# EAGLE library part 16PIN_CONN (library VESC_SHIT)
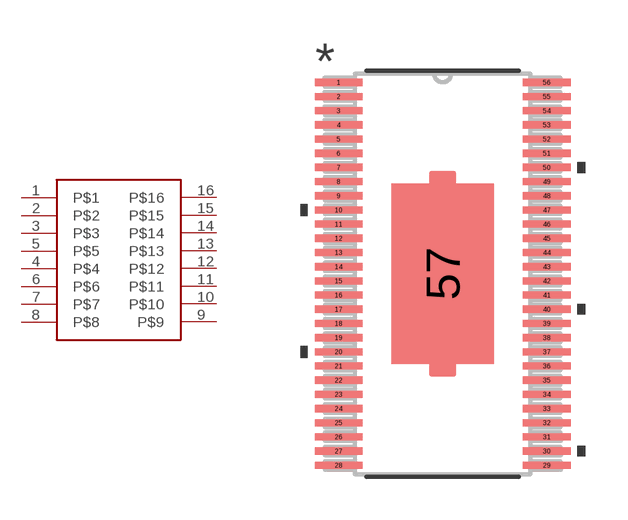
[diagram p6: symbol with the pads of DCA56_6P35X3P61; footprint DCA56_6P35X3P61]

Designator prefix -

## 16PIN_CONN  [DCA56_6P35X3P61]
1  P$1
2  P$2
3  P$3
4  P$4
5  P$5
6  P$6
7  P$7
8  P$8
9  P$9
10  P$10
11  P$11
12  P$12
13  P$13
14  P$14
15  P$15
16  P$16

## Footprint DCA56_6P35X3P61 (pad centres in mm)
smd 1.676 x 0.254: 1 -3.67,6.75; 2 -3.67,6.25; 3 -3.67,5.75; 4 -3.67,5.25; 5 -3.67,4.75; 6 -3.67,4.25; 7 -3.67,3.75; 8 -3.67,3.25; 9 -3.67,2.75; 10 -3.67,2.25; 11 -3.67,1.75; 12 -3.67,1.25; 13 -3.67,0.75; 14 -3.67,0.25; 15 -3.67,-0.25; 16 -3.67,-0.75; 17 -3.67,-1.25; 18 -3.67,-1.75; 19 -3.67,-2.25; 20 -3.67,-2.75; 21 -3.67,-3.25; 22 -3.67,-3.75; 23 -3.67,-4.25; 24 -3.67,-4.75; 25 -3.67,-5.25; 26 -3.67,-5.75; 27 -3.67,-6.25; 28 -3.67,-6.75; 29 3.67,-6.75; 30 3.67,-6.25; 31 3.67,-5.75; 32 3.67,-5.25; 33 3.67,-4.75; 34 3.67,-4.25; 35 3.67,-3.75; 36 3.67,-3.25; 37 3.67,-2.75; 38 3.67,-2.25; 39 3.67,-1.75; 40 3.67,-1.25; 41 3.67,-0.75; 42 3.67,-0.25; 43 3.67,0.25; 44 3.67,0.75; 45 3.67,1.25; 46 3.67,1.75; 47 3.67,2.25; 48 3.67,2.75; 49 3.67,3.25; 50 3.67,3.75; 51 3.67,4.25; 52 3.67,4.75; 53 3.67,5.25; 54 3.67,5.75; 55 3.67,6.25; 56 3.67,6.75
smd 3.61 x 6.35: 57 0,0